# EAGLE library part SN65HVD234QDRQ1 (library SN65HVD234QDRQ1)
3.3-V Automotive CAN Bus Transceivers Source: Datasheet <http://www.ti.com/lit/gpn/sn65hvd234-q1>
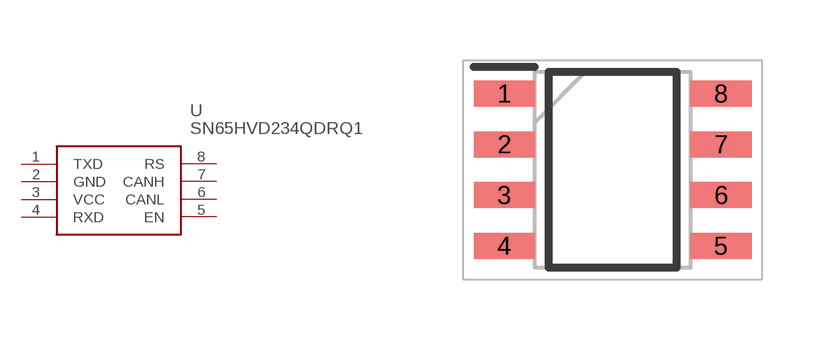
[diagram p0: symbol with the pads of SOIC127P600X175-8N; footprint SOIC127P600X175-8N]

Designator prefix U

## SN65HVD234QDRQ1 (Description: 3.3-V Automotive CAN Bus Transceivers; Height: 1.75mm; Manufacturer_Name: Texas Instruments; Manufacturer_Part_Number: SN65HVD234QDRQ1; Mouser_Part_Number: 595-SN65HVD234QDRQ1; Mouser_Price-Stock: https://www.mouser.co.uk/ProductDetail/Texas-Instruments/SN65HVD234QDRQ1?qs=vxeUf0TWHS1ncTjp6RJM2A%3D%3D)  [SOIC127P600X175-8N]
1  TXD  out
2  GND  pwr
3  VCC  pwr
4  RXD  in
5  EN  in
6  CANL
7  CANH
8  RS  in

## Footprint SOIC127P600X175-8N (pad centres in mm)
SOIC - 1.75 mm max height
smd 1.528 x 0.65: 1 -2.711,1.905; 2 -2.711,0.635; 3 -2.711,-0.635; 4 -2.711,-1.905; 5 2.711,-1.905; 6 2.711,-0.635; 7 2.711,0.635; 8 2.711,1.905